# Altium footprint library SYSPCB_03.PCBLIB: 98 footprints (part 5 of 7)
Each footprint in its own frame and in the unit in brackets; x right, y up, seen from the top. Pads: shape width x height; smd on the part's side, far side on the other; paste and mask are expansions set on the pad; w line width, h text height; cw(c..) or ccw(c..) is an arc to the next point about the centre after c.
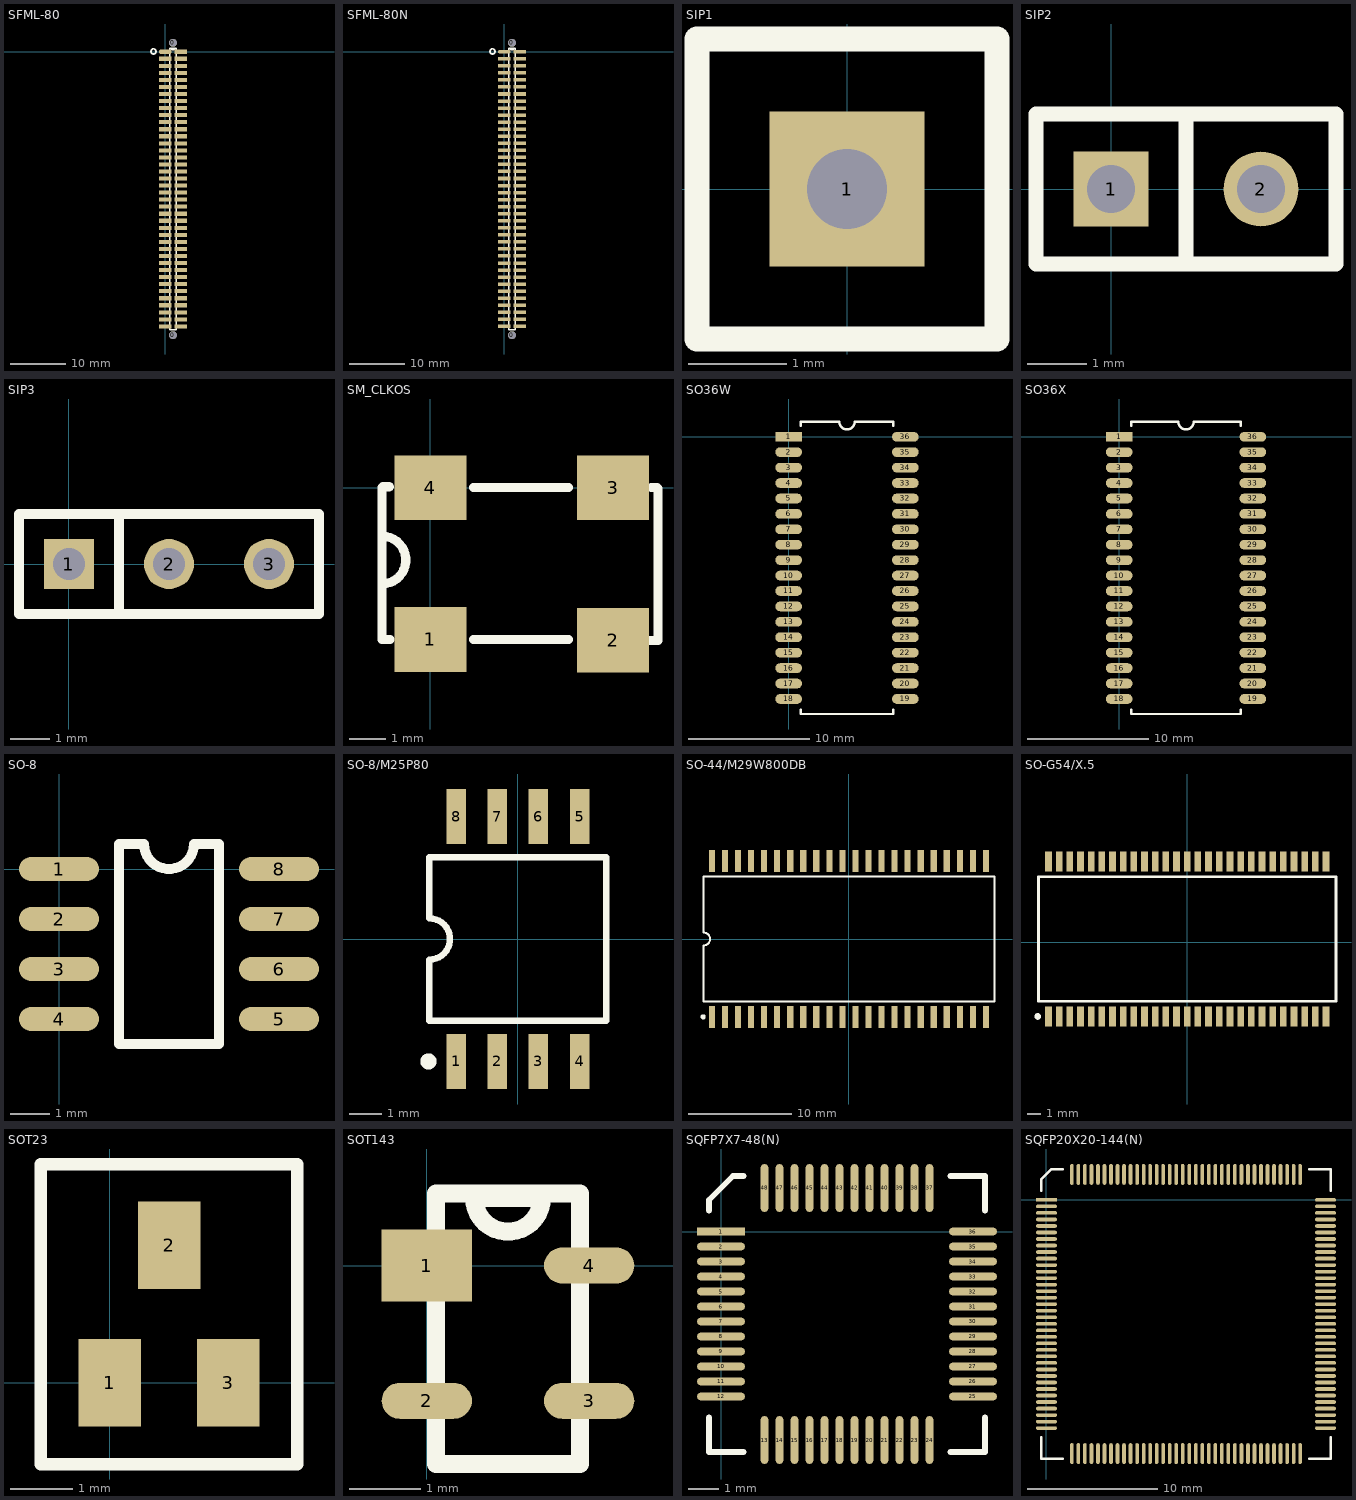
[diagram p4: the footprints below, top view; thin cyan lines are the x and y axes]

## SFML-80 [mil]
pads (82):
  round 55 hole 55: 0(55,-2012) 0(55,63)
  oct 88x29 smd: 1(0,0)
  rect 88x29 smd: 2(110,0) 3(0,-50) 4(110,-50) 5(0,-100) 6(110,-100) 7(0,-150) 8(110,-150) 9(0,-200) 10(110,-200) 11(0,-250) 12(110,-250) 13(0,-300) 14(110,-300) 15(0,-350) 16(110,-350) 17(0,-400) 18(110,-400) 19(0,-450) 20(110,-450) 21(0,-500) 22(110,-500) 23(0,-550) 24(110,-550) 25(0,-600) 26(110,-600) 27(0,-650) 28(110,-650) 29(0,-700) 30(110,-700) 31(0,-750) 32(110,-750) 33(0,-800) 34(110,-800) 35(0,-850) 36(110,-850) 37(0,-900) 38(110,-900) 39(0,-950) 40(110,-950) 41(0,-1000) 42(110,-1000) 43(0,-1050) 44(110,-1050) 45(0,-1100) 46(110,-1100) 47(0,-1150) 48(110,-1150) 49(0,-1200) 50(110,-1200) 51(0,-1250) 52(110,-1250) 53(0,-1300) 54(110,-1300) 55(0,-1350) 56(110,-1350) 57(0,-1400) 58(110,-1400) 59(0,-1450) 60(110,-1450) 61(0,-1500) 62(110,-1500) 63(0,-1550) 64(110,-1550) 65(0,-1600) 66(110,-1600) 67(0,-1650) 68(110,-1650) 69(0,-1700) 70(110,-1700) 71(0,-1750) 72(111,-1750) 73(0,-1800) 74(110,-1800) 75(0,-1850) 76(110,-1850) 77(0,-1900) 78(110,-1900) 79(0,-1950) 80(110,-1950)
TopOverlay:
  circle w10: c-83.38,2 r18.38
  lines w10: 31,-1975 31,25 67.5,25 cw(c55,25) 42.5,25 79,25 79,-1975 31,-1975

## SFML-80N [mil]
pads (82):
  round 55 hole 55: 0(55,-2012) 0(55,63)
  oct 88x25 smd: 1(0,0)
  rect 88x25 smd: 2(110,0) 3(0,-50) 4(110,-50) 5(0,-100) 6(110,-100) 7(0,-150) 8(110,-150) 9(0,-200) 10(110,-200) 11(0,-250) 12(110,-250) 13(0,-300) 14(110,-300) 15(0,-350) 16(110,-350) 17(0,-400) 18(110,-400) 19(0,-450) 20(110,-450) 21(0,-500) 22(110,-500) 23(0,-550) 24(110,-550) 25(0,-600) 26(110,-600) 27(0,-650) 28(110,-650) 29(0,-700) 30(110,-700) 31(0,-750) 32(110,-750) 33(0,-800) 34(110,-800) 35(0,-850) 36(110,-850) 37(0,-900) 38(110,-900) 39(0,-950) 40(110,-950) 41(0,-1000) 42(110,-1000) 43(0,-1050) 44(110,-1050) 45(0,-1100) 46(110,-1100) 47(0,-1150) 48(110,-1150) 49(0,-1200) 50(110,-1200) 51(0,-1250) 52(110,-1250) 53(0,-1300) 54(110,-1300) 55(0,-1350) 56(110,-1350) 57(0,-1400) 58(110,-1400) 59(0,-1450) 60(110,-1450) 61(0,-1500) 62(110,-1500) 63(0,-1550) 64(110,-1550) 65(0,-1600) 66(110,-1600) 67(0,-1650) 68(110,-1650) 69(0,-1700) 70(110,-1700) 71(0,-1750) 72(111,-1750) 73(0,-1800) 74(110,-1800) 75(0,-1850) 76(110,-1850) 77(0,-1900) 78(110,-1900) 79(0,-1950) 80(110,-1950)
TopOverlay:
  circle w10: c-83.38,2 r18.38
  lines w10: 31,-1975 31,25 67.5,25 cw(c55,25) 42.5,25 79,25 79,-1975 31,-1975

## SIP1 [mil]
pads (1):
  rect 62x62 hole 32: 1(0,0)
TopOverlay:
  lines w10: -60,-60 60,-60 60,60 0,60 -60,60 -60,-60

## SIP2 [mil]
pads (2):
  rect 50x50 hole 32: 1(0,0)
  round 50 hole 32: 2(100,0)
TopOverlay:
  lines w10: 50,-50 50,50 ; -50,-50 150,-50 150,50 -50,50 -50,-50

## SIP3 [mil]
pads (3):
  rect 50x50 hole 32: 1(0.04,0.04)
  round 50 hole 32: 2(100.04,0.04) 3(200.04,0.04)
TopOverlay:
  lines w10: 50.04,-49.96 50.04,50.04 ; -49.96,-49.96 -49.96,50.04 250.04,50.04 250.04,-49.96 -49.96,-49.96

## SM_CLKOS [mm]
pads (4):
  rect 2x1.8 smd: 1(0,-4.216) 2(5.08,-4.242) 3(5.08,0) 4(0,0)
TopOverlay:
  lines w0.254: -1.346,-2.675 ccw(c-1.346,-2.011) -1.346,-1.346 ; -1.143,0.025 -1.321,0.025 -1.346,0 -1.346,-4.216 -1.118,-4.216 ; 1.194,-4.216 3.835,-4.216 ; 1.194,0 3.835,0 ; 6.096,-4.242 6.325,-4.242 6.325,-0.025 6.299,0 6.147,0

## SO36W [mm]
pads (36):
  rect 2.2x0.8 smd: 1(0,0)
  oval 2.2x0.8 smd: 2(0,-1.27) 3(0,-2.54) 4(0,-3.81) 5(0,-5.08) 6(0,-6.35) 7(0,-7.62) 8(0,-8.89) 9(0,-10.16) 10(0,-11.43) 11(0,-12.7) 12(0,-13.97) 13(0,-15.24) 14(0,-16.51) 15(0,-17.78) 16(0,-19.05) 17(0,-20.32) 18(0,-21.59) 19(9.6,-21.59) 20(9.6,-20.32) 21(9.6,-19.05) 22(9.6,-17.78) 23(9.6,-16.51) 24(9.6,-15.24) 25(9.6,-13.97) 26(9.6,-12.7) 27(9.6,-11.43) 28(9.6,-10.16) 29(9.6,-8.89) 30(9.6,-7.62) 31(9.6,-6.35) 32(9.6,-5.08) 33(9.6,-3.81) 34(9.6,-2.54) 35(9.6,-1.27) 36(9.6,0)
TopOverlay:
  lines w0.2: 1,-22.49 1,-22.83 8.6,-22.83 8.6,-22.49 ; 1,0.9 1,1.24 4.165,1.24 ccw(c4.8,1.24) 5.435,1.24 8.6,1.24 8.6,0.9

## SO36X [mm]
pads (36):
  rect 2.2x0.8 smd: 1(0,0)
  oval 2.2x0.8 smd: 2(0,-1.27) 3(0,-2.54) 4(0,-3.81) 5(0,-5.08) 6(0,-6.35) 7(0,-7.62) 8(0,-8.89) 9(0,-10.16) 10(0,-11.43) 11(0,-12.7) 12(0,-13.97) 13(0,-15.24) 14(0,-16.51) 15(0,-17.78) 16(0,-19.05) 17(0,-20.32) 18(0,-21.59) 19(11,-21.59) 20(11,-20.32) 21(11,-19.05) 22(11,-17.78) 23(11,-16.51) 24(11,-15.24) 25(11,-13.97) 26(11,-12.7) 27(11,-11.43) 28(11,-10.16) 29(11,-8.89) 30(11,-7.62) 31(11,-6.35) 32(11,-5.08) 33(11,-3.81) 34(11,-2.54) 35(11,-1.27) 36(11,0)
TopOverlay:
  lines w0.2: 0.99,-22.49 0.99,-22.83 10.01,-22.83 10.01,-22.49 ; 0.99,0.9 0.99,1.24 4.865,1.24 ccw(c5.5,1.24) 6.135,1.24 10.01,1.24 10.01,0.9

## SO-8 [mil]
pads (8):
  oval 80x24 smd: 1(0,0) 2(0,-50) 3(0,-100) 4(0,-150) 5(220,-150) 6(220,-100) 7(220,-50) 8(220,0)
TopOverlay:
  lines w10: 60,-175 60,25 85,25 ccw(c110,25) 135,25 160,25 160,-175 60,-175

## SO-8/M25P80 [mm]
pads (8):
  rect 0.6x1.7 smd: 1(-1.905,-3.775) 2(-0.635,-3.775) 3(0.635,-3.775) 4(1.905,-3.775) 5(1.905,3.775) 6(0.635,3.775) 7(-0.635,3.775) 8(-1.905,3.775)
TopOverlay:
  circle w0.25: c-2.755,-3.775 r0.125
  lines w0.2: -2.725,-2.525 2.725,-2.525 2.725,2.525 -2.725,2.525 -2.725,0.635 cw(c-2.725,0) -2.725,-0.635 -2.725,-2.525

## SO-44/M29W800DB [mm]
pads (44):
  rect 0.6x2.15 smd: 1(-13.335,-7.575) 2(-12.065,-7.575) 3(-10.795,-7.575) 4(-9.525,-7.575) 5(-8.255,-7.575) 6(-6.985,-7.575) 7(-5.715,-7.575) 8(-4.445,-7.575) 9(-3.175,-7.575) 10(-1.905,-7.575) 11(-0.635,-7.575) 12(0.635,-7.575) 13(1.905,-7.575) 14(3.175,-7.575) 15(4.445,-7.575) 16(5.715,-7.575) 17(6.985,-7.575) 18(8.255,-7.575) 19(9.525,-7.575) 20(10.795,-7.575) 21(12.065,-7.575) 22(13.335,-7.575) 23(13.335,7.575) 24(12.065,7.575) 25(10.795,7.575) 26(9.525,7.575) 27(8.255,7.575) 28(6.985,7.575) 29(5.715,7.575) 30(4.445,7.575) 31(3.175,7.575) 32(1.905,7.575) 33(0.635,7.575) 34(-0.635,7.575) 35(-1.905,7.575) 36(-3.175,7.575) 37(-4.445,7.575) 38(-5.715,7.575) 39(-6.985,7.575) 40(-8.255,7.575) 41(-9.525,7.575) 42(-10.795,7.575) 43(-12.065,7.575) 44(-13.335,7.575)
TopOverlay:
  circle w0.25: c-14.185,-7.575 r0.125
  lines w0.2: -14.15,-6.1 14.15,-6.1 14.15,6.1 -14.15,6.1 -14.15,0.635 cw(c-14.15,0) -14.15,-0.635 -14.15,-6.1

## SO-G54/X.5 [mm]
pads (54):
  rect 0.5x1.5 smd: 1(-10.4,-5.55) 2(-9.6,-5.55) 3(-8.8,-5.55) 4(-8,-5.55) 5(-7.2,-5.55) 6(-6.4,-5.55) 7(-5.6,-5.55) 8(-4.8,-5.55) 9(-4,-5.55) 10(-3.2,-5.55) 11(-2.4,-5.55) 12(-1.6,-5.55) 13(-0.8,-5.55) 14(0,-5.55) 15(0.8,-5.55) 16(1.6,-5.55) 17(2.4,-5.55) 18(3.2,-5.55) 19(4,-5.55) 20(4.8,-5.55) 21(5.6,-5.55) 22(6.4,-5.55) 23(7.2,-5.55) 24(8,-5.55) 25(8.8,-5.55) 26(9.6,-5.55) 27(10.4,-5.55) 28(10.4,6.058) 29(9.6,6.058) 30(8.8,6.058) 31(8,6.058) 32(7.2,6.058) 33(6.4,6.058) 34(5.6,6.058) 35(4.8,6.058) 36(4,6.058) 37(3.2,6.058) 38(2.4,6.058) 39(1.6,6.058) 40(0.8,6.058) 41(0,6.058) 42(-0.8,6.058) 43(-1.6,6.058) 44(-2.4,6.058) 45(-3.2,6.058) 46(-4,6.058) 47(-4.8,6.058) 48(-5.6,6.058) 49(-6.4,6.058) 50(-7.2,6.058) 51(-8,6.058) 52(-8.8,6.058) 53(-9.6,6.058) 54(-10.4,6.058)
TopOverlay:
  circle w0.25: c-11.21,-5.55 r0.125
  lines w0.2: -11.15,-4.4 -11.15,-0.635 -11.15,4.908 11.15,4.908 11.15,-4.4 -11.15,-4.4

## SOT23 [mm]
pads (3):
  rect 1x1.4 smd: 1(0,0) 2(0.95,2.2) 3(1.9,0)
TopOverlay:
  lines w0.2: -1.1,-1.3 -1.1,3.5 3,3.5 3,-1.3 -1.1,-1.3

## SOT143 [mil]
pads (4):
  rect 50x40 smd: 1(0,0)
  oval 50x20 smd: 2(0,-75) 3(90,-75) 4(90,0)
TopOverlay:
  lines w10: 30,37.5 63.75,37.5 cw(c45,37.5) 26.25,37.5 60,37.5 ; 5,-110 5,40 85,40 85,-110 5,-110

## SQFP7X7-48(N) [mm]
pads (48):
  rect 1.6x0.254 smd: 1(0,0)
  oval 1.6x0.254 smd: 2(0,-0.5) 3(0,-1) 4(0,-1.5) 5(0,-2) 6(0,-2.5) 7(0,-3) 8(0,-3.5) 9(0,-4) 10(0,-4.5) 11(0,-5) 12(0,-5.5) 25(8.4,-5.5) 26(8.4,-5) 27(8.4,-4.5) 28(8.4,-4) 29(8.4,-3.5) 30(8.4,-3) 31(8.4,-2.5) 32(8.4,-2) 33(8.4,-1.5) 34(8.4,-1) 35(8.4,-0.5) 36(8.4,0)
  oval 0.254x1.6 smd: 13(1.45,-6.95) 14(1.95,-6.95) 15(2.45,-6.95) 16(2.95,-6.95) 17(3.45,-6.95) 18(3.95,-6.95) 19(4.45,-6.95) 20(4.95,-6.95) 21(5.45,-6.95) 22(5.95,-6.95) 23(6.45,-6.95) 24(6.95,-6.95) 37(6.95,1.45) 38(6.45,1.45) 39(5.95,1.45) 40(5.45,1.45) 41(4.95,1.45) 42(4.45,1.45) 43(3.95,1.45) 44(3.45,1.45) 45(2.95,1.45) 46(2.45,1.45) 47(1.95,1.45) 48(1.45,1.45)
TopOverlay:
  lines w0.2: -0.4,-6.2 -0.4,-7.35 0.75,-7.35 ; -0.4,0.7 -0.4,1.05 0.4,1.85 0.75,1.85 ; 7.65,-7.35 8.8,-7.35 8.8,-6.2 ; 7.65,1.85 8.8,1.85 8.8,0.7

## SQFP20X20-144(N) [mm]
pads (144):
  rect 1.6x0.279 smd: 1(0,0)
  oval 1.6x0.279 smd: 2(0,-0.5) 3(0,-1) 4(0,-1.5) 5(0,-2) 6(0,-2.5) 7(0,-3) 8(0,-3.5) 9(0,-4) 10(0,-4.5) 11(0,-5) 12(0,-5.5) 13(0,-6) 14(0,-6.5) 15(0,-7) 16(0,-7.5) 17(0,-8) 18(0,-8.5) 19(0,-9) 20(0,-9.5) 21(0,-10) 22(0,-10.5) 23(0,-11) 24(0,-11.5) 25(0,-12) 26(0,-12.5) 27(0,-13) 28(0,-13.5) 29(0,-14) 30(0,-14.5) 31(0,-15) 32(0,-15.5) 33(0,-16) 34(0,-16.5) 35(0,-17) 36(0,-17.5) 73(21.4,-17.5) 74(21.4,-17) 75(21.4,-16.5) 76(21.4,-16) 77(21.4,-15.5) 78(21.4,-15) 79(21.4,-14.5) 80(21.4,-14) 81(21.4,-13.5) 82(21.4,-13) 83(21.4,-12.5) 84(21.4,-12) 85(21.4,-11.5) 86(21.4,-11) 87(21.4,-10.5) 88(21.4,-10) 89(21.4,-9.5) 90(21.4,-9) 91(21.4,-8.5) 92(21.4,-8) 93(21.4,-7.5) 94(21.4,-7) 95(21.4,-6.5) 96(21.4,-6) 97(21.4,-5.5) 98(21.4,-5) 99(21.4,-4.5) 100(21.4,-4) 101(21.4,-3.5) 102(21.4,-3) 103(21.4,-2.5) 104(21.4,-2) 105(21.4,-1.5) 106(21.4,-1) 107(21.4,-0.5) 108(21.4,0)
  oval 0.279x1.6 smd: 37(1.95,-19.45) 38(2.45,-19.45) 39(2.95,-19.45) 40(3.45,-19.45) 41(3.95,-19.45) 42(4.45,-19.45) 43(4.95,-19.45) 44(5.45,-19.45) 45(5.95,-19.45) 46(6.45,-19.45) 47(6.95,-19.45) 48(7.45,-19.45) 49(7.95,-19.45) 50(8.45,-19.45) 51(8.95,-19.45) 52(9.45,-19.45) 53(9.95,-19.45) 54(10.45,-19.45) 55(10.95,-19.45) 56(11.45,-19.45) 57(11.95,-19.45) 58(12.45,-19.45) 59(12.95,-19.45) 60(13.45,-19.45) 61(13.95,-19.45) 62(14.45,-19.45) 63(14.95,-19.45) 64(15.45,-19.45) 65(15.95,-19.45) 66(16.45,-19.45) 67(16.95,-19.45) 68(17.45,-19.45) 69(17.95,-19.45) 70(18.45,-19.45) 71(18.95,-19.45) 72(19.45,-19.45) 109(19.45,1.95) 110(18.95,1.95) 111(18.45,1.95) 112(17.95,1.95) 113(17.45,1.95) 114(16.95,1.95) 115(16.45,1.95) 116(15.95,1.95) 117(15.45,1.95) 118(14.95,1.95) 119(14.45,1.95) 120(13.95,1.95) 121(13.45,1.95) 122(12.95,1.95) 123(12.45,1.95) 124(11.95,1.95) 125(11.45,1.95) 126(10.95,1.95) 127(10.45,1.95) 128(9.95,1.95) 129(9.45,1.95) 130(8.95,1.95) 131(8.45,1.95) 132(7.95,1.95) 133(7.45,1.95) 134(6.95,1.95) 135(6.45,1.95) 136(5.95,1.95) 137(5.45,1.95) 138(4.95,1.95) 139(4.45,1.95) 140(3.95,1.95) 141(3.45,1.95) 142(2.95,1.95) 143(2.45,1.95) 144(1.95,1.95)
TopOverlay:
  lines w0.2: -0.4,-18.2 -0.4,-19.85 1.25,-19.85 ; -0.4,0.7 -0.4,1.55 0.4,2.35 1.25,2.35 ; 20.15,-19.85 21.8,-19.85 21.8,-18.2 ; 20.15,2.35 21.8,2.35 21.8,0.7